# Altium footprint library Components.PcbLib: 154 footprints (part 5 of 10)
Each footprint in its own frame and in the unit in brackets; x right, y up, seen from the top. Pads: shape width x height; smd on the part's side, far side on the other; paste and mask are expansions set on the pad; w line width, h text height; cw(c..) or ccw(c..) is an arc to the next point about the centre after c.
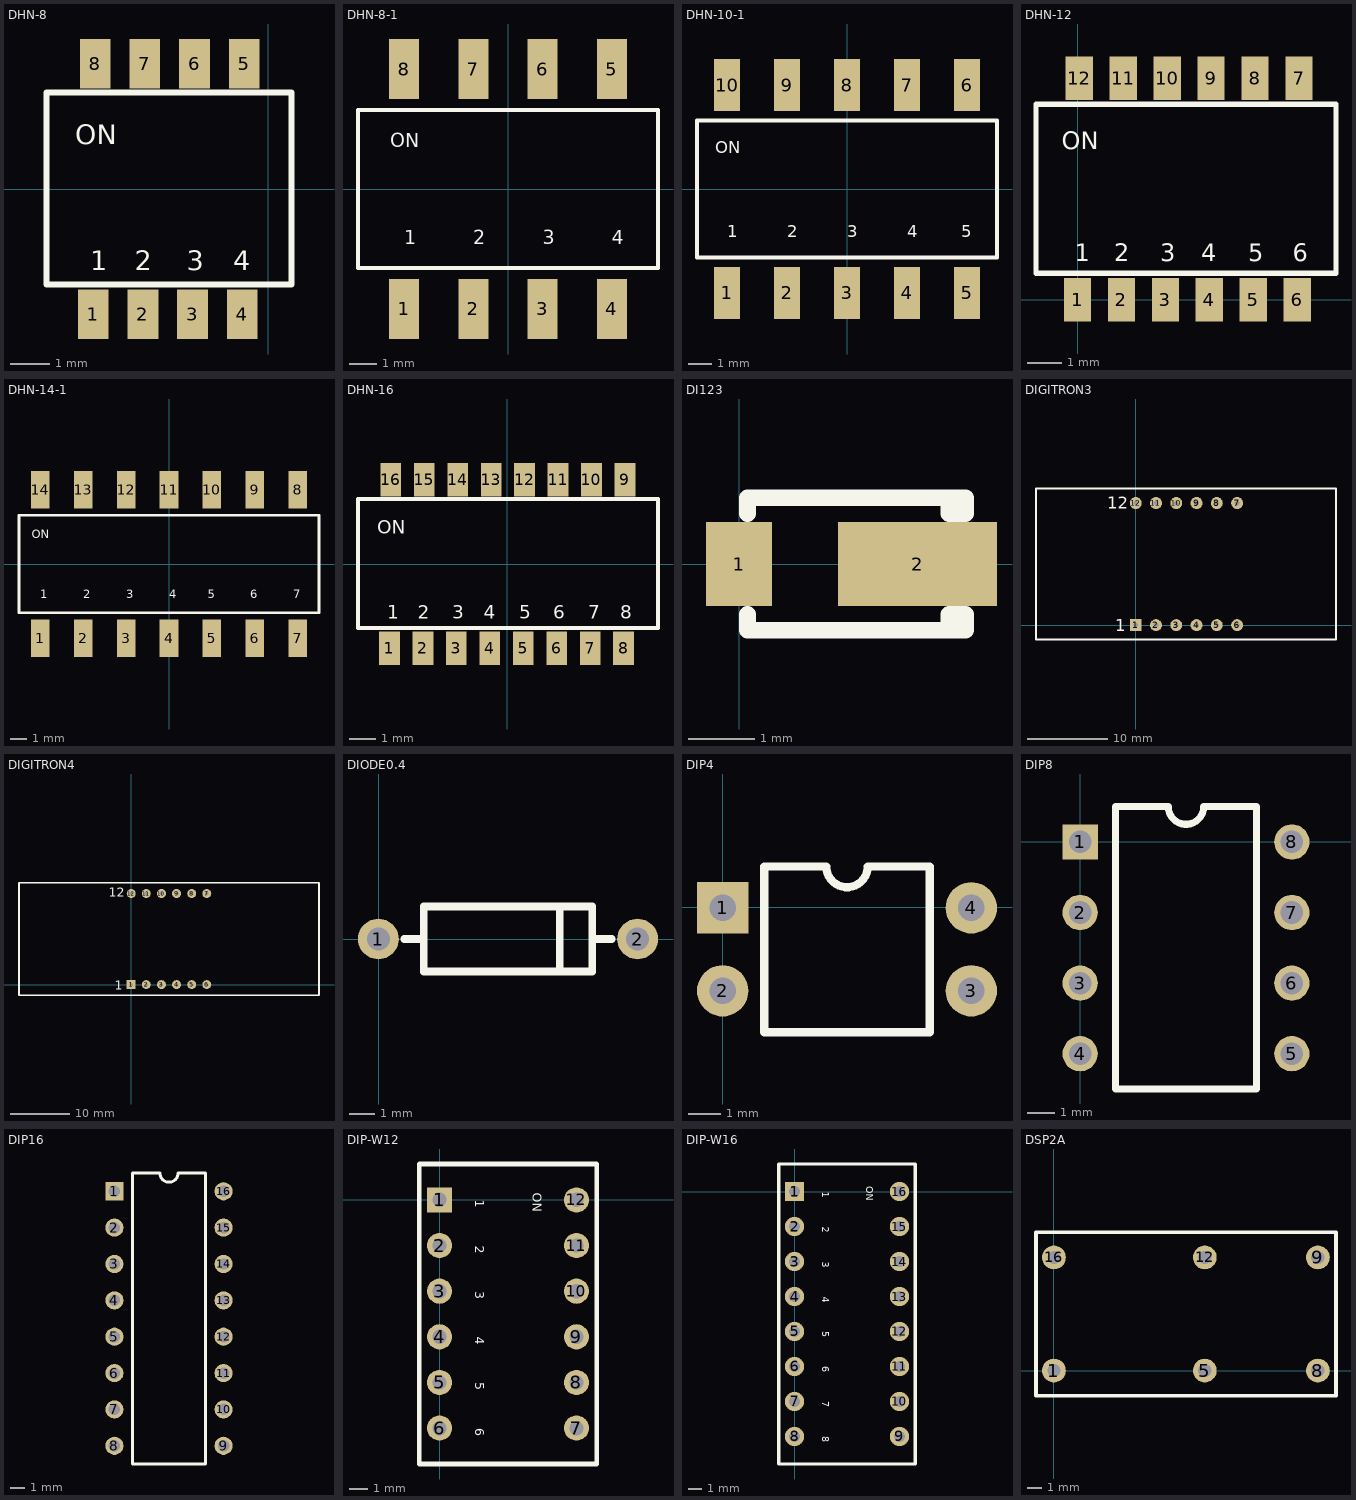
[diagram p4: the footprints below, top view; thin cyan lines are the x and y axes]

## DHN-8 [mil]
pads (8):
  rect 31x50 smd: 1(-176,-126) 2(-126,-126) 3(-76,-126) 4(-26,-126) 5(-24,126) 6(-74,126) 7(-124,126) 8(-174,126)
Top Overlay:
  lines w6: -223,-95.91 23.62,-95.91 23.62,97 -223,97 -223,-95.91
  text "ON" at -194,45 h20
  text "1" at -179,-82 h20
  text "2" at -134,-82 h20
  text "3" at -82,-82 h20
  text "4" at -35,-82 h20

## DHN-8-1 [mm] "2.54mm"
pads (8):
  rect 1.1x2.2 smd: 1(-3.81,-4.4) 2(-1.27,-4.4) 3(1.27,-4.4) 4(3.81,-4.4) 5(3.81,4.4) 6(1.27,4.4) 7(-1.27,4.4) 8(-3.81,4.4)
Top Overlay:
  lines w0.152: -5.5,-2.9 5.5,-2.9 5.5,2.9 -5.5,2.9 -5.5,-2.9
  text "ON" at -4.318,1.524 h0.51
  text "1" at -3.81,-2.032 h0.51
  text "2" at -1.27,-2.032 h0.51
  text "3" at 1.27,-2.032 h0.51
  text "4" at 3.81,-2.032 h0.51

## DHN-10-1 [mm] "2.54mm"
pads (10):
  rect 1.1x2.2 smd: 1(-5.08,-4.4) 2(-2.54,-4.4) 3(0,-4.4) 4(2.54,-4.4) 5(5.08,-4.4) 6(5.08,4.4) 7(2.54,4.4) 8(0,4.4) 9(-2.54,4.4) 10(-5.08,4.4)
Top Overlay:
  lines w0.152: -6.35,-2.9 -6.35,2.9 6.35,2.9 6.35,-2.9 -6.35,-2.9
  text "5" at 4.826,-2.032 h0.51
  text "4" at 2.54,-2.032 h0.51
  text "3" at 0,-2.032 h0.51
  text "2" at -2.54,-2.032 h0.51
  text "1" at -5.08,-2.032 h0.51
  text "ON" at -5.588,1.524 h0.51

## DHN-12 [mil]
pads (12):
  rect 31x50 smd: 1(0,0) 2(50,0) 3(100,0) 4(150,0) 5(200,0) 6(250,0) 7(252,252) 8(202,252) 9(152,252) 10(102,252) 11(52,252) 12(2,252)
Top Overlay:
  lines w6: -47.24,30.09 -47.24,222.44 ; -47,30.09 293.31,30.09 ; -47,222.44 294.09,222.44 294.09,30.09
  text "ON" at -18,171 h20
  text "1" at -3,44 h20
  text "2" at 42,44 h20
  text "3" at 94,44 h20
  text "4" at 141,44 h20
  text "6" at 245,44 h20
  text "5" at 194,44 h20

## DHN-14-1 [mm] "2.54mm"
pads (14):
  rect 1.1x2.2 smd: 1(-7.62,-4.4) 2(-5.08,-4.4) 3(-2.54,-4.4) 4(0,-4.4) 5(2.54,-4.4) 6(5.08,-4.4) 7(7.62,-4.4) 8(7.62,4.4) 9(5.08,4.4) 10(2.54,4.4) 11(0,4.4) 12(-2.54,4.4) 13(-5.08,4.4) 14(-7.62,4.4)
Top Overlay:
  lines w0.152: -8.89,-2.9 -8.89,2.9 8.89,2.9 8.89,-2.9 -8.89,-2.9
  text "5" at 2.286,-2.032 h0.51
  text "4" at 0,-2.032 h0.51
  text "3" at -2.54,-2.032 h0.51
  text "2" at -5.08,-2.032 h0.51
  text "1" at -7.62,-2.032 h0.51
  text "ON" at -8.128,1.524 h0.51
  text "6" at 4.826,-2.032 h0.51
  text "7" at 7.366,-2.032 h0.51

## DHN-16 [mil]
pads (16):
  rect 31x50 smd: 1(-176,-126) 2(-126,-126) 3(-76,-126) 4(-26,-126) 5(24,-126) 6(74,-126) 7(124,-126) 8(174,-126) 9(176,126) 10(126,126) 11(76,126) 12(26,126) 13(-24,126) 14(-74,126) 15(-124,126) 16(-174,126)
Top Overlay:
  lines w6: -223,-95.91 -223,97 225.43,97 225.43,-95.91 -223,-95.91
  text "5" at 18,-82 h20
  text "8" at 169,-82 h20
  text "7" at 121,-82 h20
  text "6" at 69,-82 h20
  text "4" at -35,-82 h20
  text "3" at -82,-82 h20
  text "2" at -134,-82 h20
  text "1" at -179,-82 h20
  text "ON" at -194,45 h20

## DI123 [mm] "3.7*1.8mm"
pads (2):
  rect 1x1.27 smd: 1(0,0)
  rect 2.4x1.27 smd: 2(2.7,0)
Top Overlay:
  lines w0.254: 0.127,-0.762 0.127,-1 3.429,-1 3.429,-0.762 3.175,-0.762 3.175,-1 ; 0.127,0.762 0.127,1 3.429,1 3.429,0.762 3.175,0.762 3.175,1

## DIGITRON3 [mm]
pads (12):
  rect 1.5x1.5 hole 0.6: 1(0,0)
  round 1.5 hole 0.6: 2(2.54,0) 3(5.08,0) 4(7.62,0) 5(10.16,0) 6(12.7,0) 7(12.7,15.3) 8(10.16,15.3) 9(7.62,15.3) 10(5.08,15.3) 11(2.54,15.3) 12(0,15.3)
Top Overlay:
  lines w0.254: -12.5,7.62 -12.5,17.119 ; -12.5,7.701 -12.5,-1.8 25.1,-1.8 25.1,17.1 -12.5,17.1
  text "12" at -3.556,14.605 h1.52
  text "1" at -2.54,-0.762 h1.52

## DIGITRON4 [mm]
pads (12):
  rect 1.5x1.5 hole 0.6: 1(0,0)
  round 1.5 hole 0.6: 2(2.54,0) 3(5.08,0) 4(7.62,0) 5(10.16,0) 6(12.7,0) 7(12.7,15.3) 8(10.16,15.3) 9(7.62,15.3) 10(5.08,15.3) 11(2.54,15.3) 12(0,15.3)
Top Overlay:
  lines w0.254: -18.85,7.62 -18.85,17.119 ; -18.85,7.701 -18.85,-1.8 31.55,-1.8 31.55,17.1 -18.85,17.1
  text "12" at -3.81,14.732 h1.52
  text "1" at -2.794,-0.889 h1.52

## DIODE0.4 [mm]
pads (2):
  round 1.6 hole 0.9: 1(-0.008,0) 2(10.152,0)
Top Overlay:
  lines w0.305: 1.008,0 1.77,0 ; 7.104,-1.27 7.104,1.27 ; 8.374,0 9.136,0 ; 1.77,-1.27 1.77,1.27 8.374,1.27 8.374,-1.27 1.77,-1.27

## DIP4 [mil]
pads (4):
  rect 62x62 hole 32: 1(0,-0.91)
  round 62 hole 32: 2(0,-100.91) 3(300,-100.91) 4(300,-0.91)
Top Overlay:
  lines w10: 50,-150.91 50,49.09 125,49.09 ccw(c150,49.09) 175,49.09 250,49.09 250,-150.91 50,-150.91

## DIP8 [mil] "DIP8"
pads (8):
  rect 50x50 hole 32: 1(0,0)
  round 50 hole 32: 2(0,-100) 3(0,-200) 4(0,-300) 5(300,-300) 6(300,-200) 7(300,-100) 8(300,0)
Top Overlay:
  lines w10: 50,-350 50,50 125,50 ccw(c150,50) 175,50 250,50 250,-350 50,-350

## DIP16 [mm]
pads (16):
  rect 1.27x1.27 hole 0.8: 1(25.654,25.4)
  round 1.27 hole 0.8: 2(25.654,22.86) 3(25.654,20.32) 4(25.654,17.78) 5(25.654,15.24) 6(25.654,12.7) 7(25.654,10.16) 8(25.654,7.62) 9(33.274,7.62) 10(33.274,10.16) 11(33.274,12.7) 12(33.274,15.24) 13(33.274,17.78) 14(33.274,20.32) 15(33.274,22.86) 16(33.274,25.4)
Top Overlay:
  lines w0.203: 26.924,6.35 26.924,26.67 28.829,26.67 ccw(c29.464,26.67) 30.099,26.67 32.004,26.67 32.004,6.35 26.924,6.35

## DIP-W12 [mm]
pads (12):
  rect 1.4x1.4 hole 0.8: 1(0,0)
  round 1.4 hole 0.8: 2(0,-2.54) 3(0,-5.08) 4(0,-7.62) 5(0,-10.16) 6(0,-12.7) 7(7.62,-12.7) 8(7.62,-10.16) 9(7.62,-7.62) 10(7.62,-5.08) 11(7.62,-2.54) 12(7.62,0)
Top Overlay:
  lines w0.254: -1.14,-14.7 8.76,-14.7 8.76,2 -1.14,2 -1.14,-14.7
  text "5" at 2,-10.16 h0.51
  text "6" at 2,-12.7 h0.51
  text "4" at 2,-7.62 h0.51
  text "3" at 2,-5.08 h0.51
  text "2" at 2,-2.54 h0.51
  text "1" at 2,0 h0.51
  text "ON" at 5.2,0.4 h0.51

## DIP-W16 [mm]
pads (16):
  rect 1.4x1.4 hole 0.8: 1(0,0)
  round 1.4 hole 0.8: 2(0,-2.54) 3(0,-5.08) 4(0,-7.62) 5(0,-10.16) 6(0,-12.7) 7(0,-15.24) 8(0,-17.78) 9(7.62,-17.78) 10(7.62,-15.24) 11(7.62,-12.7) 12(7.62,-10.16) 13(7.62,-7.62) 14(7.62,-5.08) 15(7.62,-2.54) 16(7.62,0)
Top Overlay:
  lines w0.254: -1.14,-19.78 -1.14,2 8.76,2 8.76,-19.78 -1.14,-19.78
  text "ON" at 5.2,0.4 h0.51
  text "1" at 2,0 h0.51
  text "2" at 2,-2.54 h0.51
  text "3" at 2,-5.08 h0.51
  text "4" at 2,-7.62 h0.51
  text "6" at 2,-12.7 h0.51
  text "7" at 2,-15.24 h0.51
  text "8" at 2,-17.78 h0.51
  text "5" at 2,-10.16 h0.51

## DSP2A [mm]
pads (6):
  round 1.6 hole 0.9: 1(0,0) 5(10.16,0) 8(17.78,0) 9(17.78,7.62) 12(10.16,7.62) 16(0,7.62)
Top Overlay:
  lines w0.254: 18.99,-1.69 -1.21,-1.69 -1.21,9.31 18.99,9.31 ; 19,-1.69 19,9.31